# Altium schematic symbol library SS34.SCHLIB: 1 symbol
Pins are listed as number, name and electrical type; pins without a type are passive.

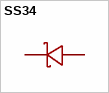
[diagram p0: symbol SS34]

## SS34
designator D?  (value not drawn)
Manufacturer: onsemi(安森美); Symbol: SS34_C154551; Add into BOM: yes; Forward Voltage (Vf@If): 500mV@3A; Reverse Voltage (Vr): 40V; Rectified Current: 3A; Reverse Leakage Current (Ir): 500uA@40V; Device: SS34_C154551; LCSC Part Name: 电压:40V 电流:3A; Supplier Part: C154551; Manufacturer Part: SS34; Supplier Footprint: SMC(DO-214AB); JLCPCB Part Class: Extended Part; Datasheet: https://atta.szlcsc.com/upload/public/pdf/source/20230523/C977B907190B075B30FD168351032A84.pdf; Supplier: LCSC; Convert to PCB: yes
footprint SMC_L6.9-W5.9-LS7.9-RD
pins: 1 C, 2 A